# EAGLE library part WE-LAN-24PIN-2 (library Wuerth_Elektronik_eiSos_ v6.8)
LAN-Transformer WE-LAN 16Pin - Compliant with IEEE 802.3 standards - SMD -- Ethernet -- Power over Ethernet -- 1 Gigabit Ethernet -- Compliant with most IC's for ethernet applications like Intel, AMD, Globespan and Realtek
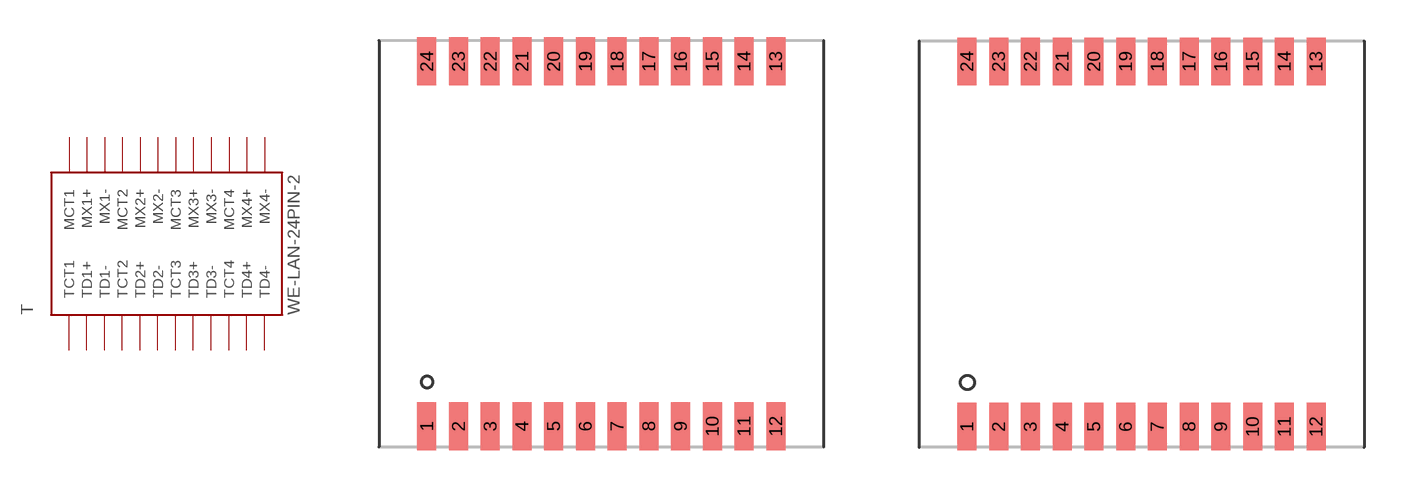
[diagram p5: symbol with the pads of WE-LAN_749020010; footprints WE-LAN_749020010, WE-LAN_749020011]

Designator prefix T

## WE-LAN-24PIN-2_749020010  [WE-LAN_749020010]
1  TCT1  pas
2  TD1+  pas
3  TD1-  pas
4  TCT2  pas
5  TD2+  pas
6  TD2-  pas
7  TCT3  pas
8  TD3+  pas
9  TD3-  pas
10  TCT4  pas
11  TD4+  pas
12  TD4-  pas
13  MX4-  pas
14  MX4+  pas
15  MCT4  pas
16  MX3-  pas
17  MX3+  pas
18  MCT3  pas
19  MX2-  pas
20  MX2+  pas
21  MCT2  pas
22  MX1-  pas
23  MX1+  pas
24  MCT1  pas

## WE-LAN-24PIN-2_749020011  [WE-LAN_749020011]
Pads as for WE-LAN_749020010

## Footprint WE-LAN_749020010 (pad centres in mm)
LAN- Transformer
smd 0.76 x 1.91: 1 -6.99,-7.3; 2 -5.72,-7.3; 3 -4.45,-7.3; 4 -3.18,-7.3; 5 -1.91,-7.3; 6 -0.64,-7.3; 7 0.63,-7.3; 8 1.9,-7.3; 9 3.17,-7.3; 10 4.44,-7.3; 11 5.71,-7.3; 12 6.98,-7.3; 13 6.98,7.3; 14 5.71,7.3; 15 4.44,7.3; 16 3.17,7.3; 17 1.9,7.3; 18 0.63,7.3; 19 -0.64,7.3; 20 -1.91,7.3; 21 -3.18,7.3; 22 -4.45,7.3; 23 -5.72,7.3; 24 -6.99,7.3

## Footprint WE-LAN_749020011 (pad centres in mm)
LAN- Transformer
smd 0.76 x 1.91: 1 -6.99,-7.3; 2 -5.72,-7.3; 3 -4.45,-7.3; 4 -3.18,-7.3; 5 -1.91,-7.3; 6 -0.64,-7.3; 7 0.63,-7.3; 8 1.9,-7.3; 9 3.17,-7.3; 10 4.44,-7.3; 11 5.71,-7.3; 12 6.98,-7.3; 13 6.98,7.31; 14 5.71,7.31; 15 4.44,7.31; 16 3.17,7.31; 17 1.9,7.31; 18 0.63,7.31; 19 -0.64,7.31; 20 -1.91,7.31; 21 -3.18,7.31; 22 -4.45,7.31; 23 -5.72,7.31; 24 -6.99,7.31